# Altium schematic symbol library 1660.SchLib: 2 symbols
Pins are listed as number, name and electrical type; pins without a type are passive.

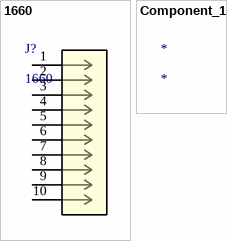
[diagram p0: symbols 1660 to Component_1]

## 1660
designator J?
No Description Available; Mfr_Name: Adafruit Industries; Copyright: Copyright (C) 2023 Ultra Librarian. All rights reserved.; Manufacturer_Part_Number: 1660; RefDes: RefDes; Type: DEV
footprint CONN_1660_ADA
pins: 1, 2, 3, 4, 5, 6, 7, 8, 9, 10

## Component_1
designator *